# Altium footprint library con-amp-quick.PCBLIB: 30 footprints (part 1 of 2)
Each footprint in its own frame and in the unit in brackets; x right, y up, seen from the top. Pads: shape width x height; smd on the part's side, far side on the other; paste and mask are expansions set on the pad; w line width, h text height; cw(c..) or ccw(c..) is an arc to the next point about the centre after c.
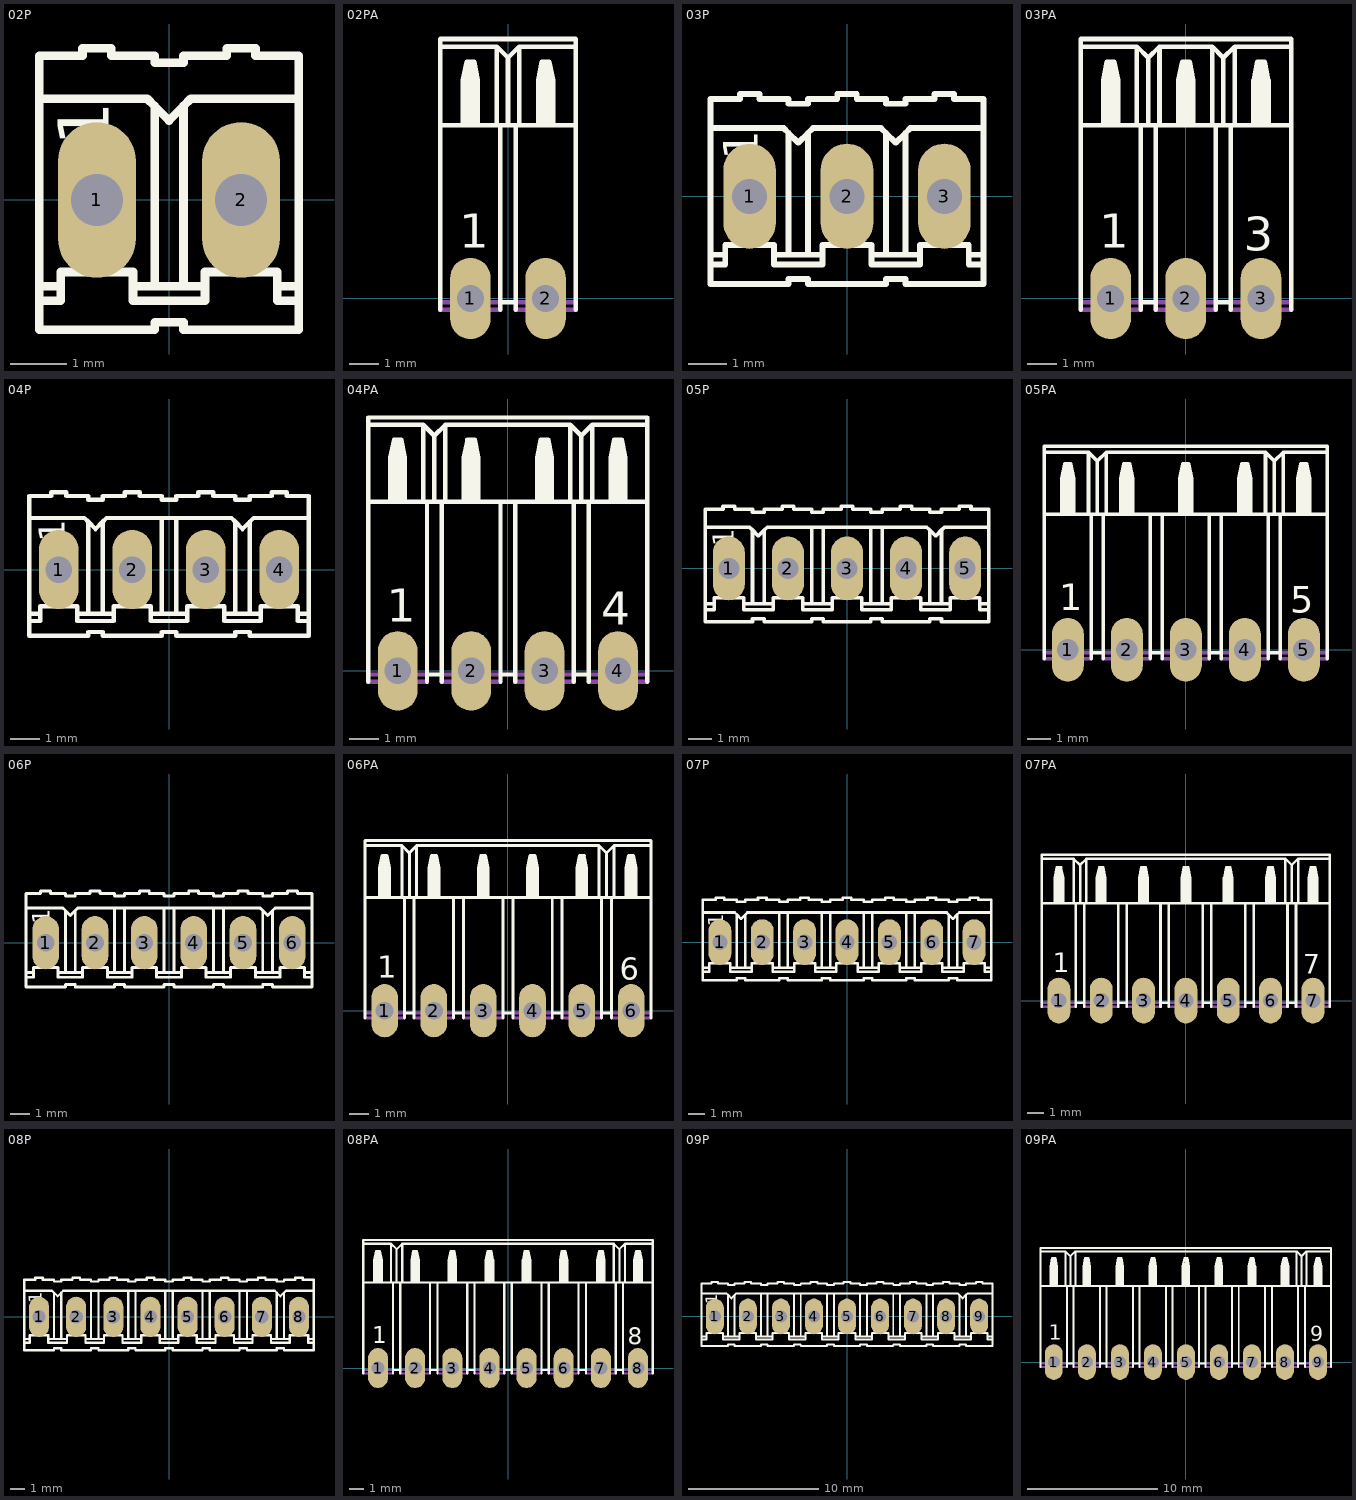
[diagram p0: the footprints below, top view; thin cyan lines are the x and y axes]

## 02P [mil]
pads (2):
  oval 54x108 hole 36: 1(-50,0) 2(50,0)
Top Overlay:
  lines w6: -90,-70 -90,-90 -10,-90 -10,-85 10,-85 10,-90 90,-90 90,-70 ; -90,-70 -75,-70 -75,-60 ; -90,-70 -90,-60 ; -90,-60 -90,70 ; -90,-60 -75,-60 ; -90,70 -90,100 -60,100 -60,105 -40,105 -40,100 -10,100 -10,95 10,95 10,100 40,100 40,105 60,105 60,100 90,100 90,70 ; -90,70 -15,70 -10,65 ; -75,-60 -75,-50 -25,-50 -25,-60 ; -25,-60 -25,-70 25,-70 25,-60 ; -25,-60 -10,-60 ; -10,-60 10,-60 ; -10,-60 -10,65 ; -10,65 0,55 10,65 ; 10,-60 25,-60 ; 10,-60 10,65 ; 10,65 15,70 90,70 ; 25,-60 25,-50 75,-50 75,-60 ; 75,-60 75,-70 90,-70 ; 75,-60 90,-60 ; 90,-70 90,-60 ; 90,-60 90,70
  text "1" at -30,37 h60.45
Mechanical 16:
  rectangle: -63,-13 -37,13
  rectangle: 37,-13 63,13

## 02PA [mil]
pads (2):
  oval 54x108 hole 36: 1(-50,0) 2(50,0)
Top Overlay:
  rectangle: 40,230 60,290
  rectangle: 45,290 55,315
  rectangle: 55,290 60,300
  rectangle: 40,290 45,300
  rectangle: -60,230 -40,290
  rectangle: -55,290 -45,315
  rectangle: -45,290 -40,300
  rectangle: -60,290 -55,300
  lines w6: -90,-15 -90,230 ; -10,-15 -10,-5 ; 10,-15 10,-5 ; 90,-15 90,230 ; -90,230 -90,335 ; -90,230 -60,230 ; -90,335 -90,345 90,345 90,335 ; -90,335 -15,335 ; -60,230 -40,230 ; -60,230 -60,290 ; -60,290 -40,290 ; -60,290 -55,315 -45,315 -40,290 ; -40,230 -15,230 ; -40,230 -40,290 ; -15,230 -15,335 ; -15,230 -10,230 ; -15,335 0,320 ; -10,-5 -10,230 ; -10,-5 10,-5 ; -10,230 0,230 ; 0,230 0,320 ; 0,230 10,230 ; 0,320 15,335 ; 10,-5 10,230 ; 10,230 15,230 ; 15,230 15,335 ; 15,230 40,230 ; 15,335 90,335 ; 40,230 60,230 ; 40,230 40,290 ; 40,290 60,290 ; 40,290 45,315 55,315 60,290 ; 60,230 90,230 ; 60,230 60,290 ; 90,230 90,335
  text "1" at -65,52 h77.5
Mechanical 16:
  lines w6: -90,-15 -70,-15 -70,-5 ; -90,-5 -70,-5 ; -10,-15 -30,-15 -30,-5 ; -10,-5 -30,-5 ; 10,-15 30,-15 30,-5 ; 10,-5 30,-5 ; 90,-15 70,-15 70,-5 ; 90,-5 70,-5 ; -70,-5 -60,-5 -60,-15 -40,-15 -40,-5 -30,-5 ; 30,-5 40,-5 40,-15 60,-15 60,-5 70,-5

## 03P [mil]
pads (3):
  oval 54x108 hole 36: 1(-100,0) 2(0,0) 3(100,0)
Top Overlay:
  lines w6: -140,-70 -140,-90 -60,-90 -60,-85 -40,-85 -40,-90 40,-90 40,-85 60,-85 60,-90 140,-90 140,-70 ; -140,-70 -125,-70 -125,-60 ; -140,-70 -140,-60 ; -140,-60 -140,70 ; -140,-60 -125,-60 ; -140,70 -140,100 -110,100 -110,105 -90,105 -90,100 -60,100 -60,95 -40,95 -40,100 -10,100 -10,105 10,105 10,100 40,100 40,95 60,95 60,100 90,100 90,105 110,105 110,100 140,100 140,70 ; -140,70 -65,70 -60,65 ; -125,-60 -125,-50 -75,-50 -75,-60 ; -75,-60 -75,-70 -25,-70 -25,-60 ; -75,-60 -60,-60 ; -60,-60 -40,-60 ; -60,-60 -60,65 ; -60,65 -50,55 -40,65 ; -40,-60 -25,-60 ; -40,-60 -40,65 ; -40,65 -35,70 35,70 40,65 ; -25,-60 -25,-50 25,-50 25,-60 ; 25,-60 25,-70 75,-70 75,-60 ; 25,-60 40,-60 ; 40,-60 60,-60 ; 40,-60 40,65 ; 40,65 50,55 60,65 ; 60,-60 75,-60 ; 60,-60 60,65 ; 60,65 65,70 140,70 ; 75,-60 75,-50 125,-50 125,-60 ; 125,-60 125,-70 140,-70 ; 125,-60 140,-60 ; 140,-70 140,-60 ; 140,-60 140,70
  text "1" at -80,37 h60.45
Mechanical 16:
  rectangle: -113,-13 -87,13
  rectangle: -13,-13 13,13
  rectangle: 87,-13 113,13

## 03PA [mil]
pads (3):
  oval 54x108 hole 36: 1(-100,0) 2(0,0) 3(100,0)
Top Overlay:
  rectangle: 90,230 110,290
  rectangle: 95,290 105,315
  rectangle: 105,290 110,300
  rectangle: 90,290 95,300
  rectangle: -10,230 10,290
  rectangle: -5,290 5,315
  rectangle: 5,290 10,300
  rectangle: -10,290 -5,300
  rectangle: -110,230 -90,290
  rectangle: -105,290 -95,315
  rectangle: -95,290 -90,300
  rectangle: -110,290 -105,300
  lines w6: -140,-15 -140,230 ; -60,-15 -60,-5 ; -40,-15 -40,-5 ; 40,-15 40,-5 ; 60,-15 60,-5 ; 90,230 90,290 ; 110,230 110,290 ; 140,-15 140,230 ; -140,230 -140,335 ; -140,230 -110,230 ; -140,335 -140,345 140,345 140,335 ; -140,335 -65,335 ; -110,230 -90,230 ; -110,230 -110,290 ; -110,290 -90,290 ; -110,290 -105,315 -95,315 -90,290 ; -90,230 -65,230 ; -90,230 -90,290 ; -65,230 -65,335 ; -65,230 -60,230 ; -65,335 -50,320 ; -60,-5 -60,230 ; -60,-5 -40,-5 ; -60,230 -50,230 ; -50,230 -50,320 ; -50,230 -40,230 ; -50,320 -35,335 ; -40,-5 -40,230 ; -40,230 -35,230 ; -35,230 -35,335 ; -35,230 -10,230 ; -35,335 35,335 ; -10,230 10,230 ; -10,230 -10,290 ; -10,290 10,290 ; -10,290 -5,315 5,315 10,290 ; 10,230 35,230 ; 10,230 10,290 ; 35,230 35,335 ; 35,230 40,230 ; 35,335 50,320 ; 40,-5 40,230 ; 40,-5 60,-5 ; 40,230 50,230 ; 50,230 50,320 ; 50,230 60,230 ; 50,320 65,335 ; 60,-5 60,230 ; 60,230 65,230 ; 65,230 65,335 ; 65,230 140,230 ; 65,335 140,335 ; 90,290 110,290 ; 90,290 95,315 105,315 110,290 ; 140,230 140,335
  text "1" at -115,52 h77.5
  text "3" at 77,48 h77.5
Mechanical 16:
  lines w6: -140,-15 -120,-15 -120,-5 ; -140,-5 -120,-5 ; -60,-15 -80,-15 -80,-5 ; -60,-5 -80,-5 ; -40,-15 -20,-15 -20,-5 ; -40,-5 -20,-5 ; 40,-15 20,-15 20,-5 ; 40,-5 20,-5 ; 60,-15 80,-15 80,-5 ; 60,-5 80,-5 ; 140,-15 120,-15 120,-5 ; 140,-5 120,-5 ; -120,-5 -110,-5 -110,-15 -90,-15 -90,-5 -80,-5 ; -20,-5 -10,-5 -10,-15 10,-15 10,-5 20,-5 ; 80,-5 90,-5 90,-15 110,-15 110,-5 120,-5

## 04P [mil]
pads (4):
  oval 54x108 hole 36: 1(-150,0) 2(-50,0) 3(50,0) 4(150,0)
Top Overlay:
  lines w6: 110,65 110,-60 ; -190,-70 -190,-90 -110,-90 -110,-85 -90,-85 -90,-90 -10,-90 -10,-85 10,-85 10,-90 90,-90 90,-85 110,-85 110,-90 190,-90 190,-70 ; -190,-70 -175,-70 -175,-60 ; -190,-70 -190,-60 ; -190,-60 -190,70 ; -190,-60 -175,-60 ; -190,70 -190,100 -160,100 -160,105 -140,105 -140,100 -110,100 -110,95 -90,95 -90,100 -60,100 -60,105 -40,105 -40,100 -10,100 -10,95 10,95 10,100 40,100 40,105 60,105 60,100 90,100 90,95 110,95 110,100 140,100 140,105 160,105 160,100 190,100 190,70 ; -190,70 -115,70 -110,65 ; -175,-60 -175,-50 -125,-50 -125,-60 ; -125,-60 -125,-70 -75,-70 -75,-60 ; -125,-60 -110,-60 ; -110,-60 -90,-60 ; -110,-60 -110,65 ; -110,65 -100,55 -90,65 ; -90,-60 -75,-60 ; -90,-60 -90,65 ; -90,65 -85,70 -10,70 ; -75,-60 -75,-50 -25,-50 -25,-60 ; -25,-60 -25,-70 25,-70 25,-60 ; -25,-60 -10,-60 ; -10,-60 10,-60 ; -10,-60 -10,70 ; -10,70 10,70 ; 10,-60 25,-60 ; 10,-60 10,70 ; 10,70 85,70 90,65 ; 25,-60 25,-50 75,-50 75,-60 ; 75,-60 75,-70 125,-70 125,-60 ; 75,-60 90,-60 ; 90,-60 110,-60 ; 90,-60 90,65 ; 90,65 100,55 115,70 190,70 ; 110,-60 125,-60 ; 125,-60 125,-50 175,-50 175,-60 ; 175,-60 175,-70 190,-70 ; 175,-60 190,-60 ; 190,-70 190,-60 ; 190,-60 190,70
  text "1" at -130,37 h60.45
Mechanical 16:
  rectangle: -163,-13 -137,13
  rectangle: -63,-13 -37,13
  rectangle: 37,-13 63,13
  rectangle: 137,-13 163,13

## 04PA [mil]
pads (4):
  oval 54x108 hole 36: 1(-150,0) 2(-50,0) 3(50,0) 4(150,0)
Top Overlay:
  rectangle: 140,230 160,290
  rectangle: 145,290 155,315
  rectangle: 155,290 160,300
  rectangle: 140,290 145,300
  rectangle: 40,230 60,290
  rectangle: 45,290 55,315
  rectangle: 55,290 60,300
  rectangle: 40,290 45,300
  rectangle: -60,230 -40,290
  rectangle: -55,290 -45,315
  rectangle: -45,290 -40,300
  rectangle: -60,290 -55,300
  rectangle: -160,230 -140,290
  rectangle: -155,290 -145,315
  rectangle: -145,290 -140,300
  rectangle: -160,290 -155,300
  lines w6: -190,-15 -190,230 ; -110,-15 -110,-5 ; -90,-15 -90,-5 ; -10,-15 -10,-5 ; 10,-15 10,-5 ; 40,230 40,290 ; 60,230 60,290 ; 90,-15 90,-5 ; 110,-15 110,-5 ; 140,230 140,290 ; 160,230 160,290 ; 190,-15 190,230 ; -190,230 -190,335 ; -190,230 -160,230 ; -190,335 -190,345 190,345 190,335 ; -190,335 -115,335 ; -160,230 -140,230 ; -160,230 -160,290 ; -160,290 -140,290 ; -160,290 -155,315 -145,315 -140,290 ; -140,230 -115,230 ; -140,230 -140,290 ; -115,230 -115,335 ; -115,230 -110,230 ; -115,335 -100,320 ; -110,-5 -110,230 ; -110,-5 -90,-5 ; -110,230 -100,230 ; -100,230 -100,320 ; -100,230 -90,230 ; -100,320 -85,335 ; -90,-5 -90,230 ; -90,230 -85,230 ; -85,230 -85,335 ; -85,230 -60,230 ; -85,335 85,335 ; -60,230 -40,230 ; -60,230 -60,290 ; -60,290 -40,290 ; -60,290 -55,315 -45,315 -40,290 ; -40,230 -10,230 ; -40,230 -40,290 ; -10,-5 -10,230 ; -10,-5 10,-5 ; -10,230 10,230 ; 10,-5 10,230 ; 10,230 85,230 ; 40,290 60,290 ; 40,290 45,315 55,315 60,290 ; 85,230 85,335 ; 85,230 90,230 ; 85,335 100,320 ; 90,-5 90,230 ; 90,-5 110,-5 ; 90,230 100,230 ; 100,230 100,320 ; 100,230 110,230 ; 100,320 115,335 ; 110,-5 110,230 ; 110,230 115,230 ; 115,230 115,335 ; 115,230 190,230 ; 115,335 190,335 ; 140,290 160,290 ; 140,290 145,315 155,315 160,290 ; 190,230 190,335
  text "1" at -165,52 h77.5
  text "4" at 127,48 h77.5
Mechanical 16:
  lines w6: -190,-15 -170,-15 -170,-5 ; -190,-5 -170,-5 ; -110,-15 -130,-15 -130,-5 ; -110,-5 -130,-5 ; -90,-15 -70,-15 -70,-5 ; -90,-5 -70,-5 ; -10,-15 -30,-15 -30,-5 ; -10,-5 -30,-5 ; 10,-15 30,-15 30,-5 ; 10,-5 30,-5 ; 90,-15 70,-15 70,-5 ; 90,-5 70,-5 ; 110,-15 130,-15 130,-5 ; 110,-5 130,-5 ; 190,-15 170,-15 170,-5 ; 190,-5 170,-5 ; -170,-5 -160,-5 -160,-15 -140,-15 -140,-5 -130,-5 ; -70,-5 -60,-5 -60,-15 -40,-15 -40,-5 -30,-5 ; 30,-5 40,-5 40,-15 60,-15 60,-5 70,-5 ; 130,-5 140,-5 140,-15 160,-15 160,-5 170,-5

## 05P [mil]
pads (5):
  oval 54x108 hole 36: 1(-200,0) 2(-100,0) 3(0,0) 4(100,0) 5(200,0)
Top Overlay:
  lines w6: -240,-70 -240,-90 -160,-90 -160,-85 -140,-85 -140,-90 -60,-90 -60,-85 -40,-85 -40,-90 40,-90 40,-85 60,-85 60,-90 140,-90 140,-85 160,-85 160,-90 240,-90 240,-70 ; -240,-70 -225,-70 -225,-60 ; -240,-70 -240,-60 ; -240,-60 -240,70 ; -240,-60 -225,-60 ; -240,70 -240,100 -210,100 -210,105 -190,105 -190,100 -160,100 -160,95 -140,95 -140,100 -110,100 -110,105 -90,105 -90,100 -60,100 -60,95 -40,95 -40,100 -10,100 -10,105 10,105 10,100 40,100 40,95 60,95 60,100 90,100 90,105 110,105 110,100 140,100 140,95 160,95 160,100 190,100 190,105 210,105 210,100 240,100 240,70 ; -240,70 -165,70 -160,65 ; -225,-60 -225,-50 -175,-50 -175,-60 ; -175,-60 -175,-70 -125,-70 -125,-60 ; -175,-60 -160,-60 ; -160,-60 -140,-60 ; -160,-60 -160,65 ; -160,65 -150,55 -140,65 ; -140,-60 -125,-60 ; -140,-60 -140,65 ; -140,65 -135,70 -60,70 ; -125,-60 -125,-50 -75,-50 -75,-60 ; -75,-60 -75,-70 -25,-70 -25,-60 ; -75,-60 -60,-60 ; -60,-60 -40,-60 ; -60,-60 -60,70 ; -60,70 -40,70 ; -40,-60 -25,-60 ; -40,-60 -40,70 ; -40,70 40,70 ; -25,-60 -25,-50 25,-50 25,-60 ; 25,-60 25,-70 75,-70 75,-60 ; 25,-60 40,-60 ; 40,-60 40,70 ; 40,-60 60,-60 ; 40,70 60,70 ; 60,-60 60,70 ; 60,-60 75,-60 ; 60,70 135,70 140,65 ; 75,-60 75,-50 125,-50 125,-60 ; 125,-60 125,-70 175,-70 175,-60 ; 125,-60 140,-60 ; 140,-60 160,-60 ; 140,-60 140,65 ; 140,65 150,55 160,65 ; 160,-60 175,-60 ; 160,-60 160,65 ; 160,65 165,70 240,70 ; 175,-60 175,-50 225,-50 225,-60 ; 225,-60 225,-70 240,-70 ; 225,-60 240,-60 ; 240,-70 240,-60 ; 240,-60 240,70
  text "1" at -180,37 h60.45
Mechanical 16:
  rectangle: -213,-13 -187,13
  rectangle: -113,-13 -87,13
  rectangle: -13,-13 13,13
  rectangle: 87,-13 113,13
  rectangle: 187,-13 213,13

## 05PA [mil]
pads (5):
  oval 54x108 hole 36: 1(-200,0) 2(-100,0) 3(0,0) 4(100,0) 5(200,0)
Top Overlay:
  rectangle: 190,230 210,290
  rectangle: 195,290 205,315
  rectangle: 205,290 210,300
  rectangle: 190,290 195,300
  rectangle: 90,230 110,290
  rectangle: 95,290 105,315
  rectangle: 105,290 110,300
  rectangle: 90,290 95,300
  rectangle: -10,230 10,290
  rectangle: -5,290 5,315
  rectangle: 5,290 10,300
  rectangle: -10,290 -5,300
  rectangle: -110,230 -90,290
  rectangle: -105,290 -95,315
  rectangle: -95,290 -90,300
  rectangle: -110,290 -105,300
  rectangle: -210,230 -190,290
  rectangle: -205,290 -195,315
  rectangle: -195,290 -190,300
  rectangle: -210,290 -205,300
  lines w6: -240,-15 -240,230 ; -160,-15 -160,-5 ; -140,-15 -140,-5 ; -60,-15 -60,-5 ; -40,-15 -40,-5 ; -10,230 -10,290 ; 10,230 10,290 ; 40,-15 40,-5 ; 60,-15 60,-5 ; 90,230 90,290 ; 110,230 110,290 ; 140,-15 140,-5 ; 160,-15 160,-5 ; 165,230 165,335 ; 240,-15 240,230 ; -240,230 -240,335 ; -240,230 -210,230 ; -240,335 -240,345 240,345 240,335 ; -240,335 -165,335 ; -210,230 -190,230 ; -210,230 -210,290 ; -210,290 -190,290 ; -210,290 -205,315 -195,315 -190,290 ; -190,230 -165,230 ; -190,230 -190,290 ; -165,230 -165,335 ; -165,230 -160,230 ; -165,335 -150,320 ; -160,-5 -160,230 ; -160,-5 -140,-5 ; -160,230 -150,230 ; -150,230 -150,320 ; -150,230 -140,230 ; -150,320 -135,335 ; -140,-5 -140,230 ; -140,230 -135,230 ; -135,230 -135,335 ; -135,230 -110,230 ; -135,335 135,335 ; -110,230 -90,230 ; -110,230 -110,290 ; -110,290 -90,290 ; -110,290 -105,315 -95,315 -90,290 ; -90,230 -60,230 ; -90,230 -90,290 ; -60,-5 -60,230 ; -60,-5 -40,-5 ; -60,230 -40,230 ; -40,-5 -40,230 ; -40,230 40,230 ; -10,290 10,290 ; -10,290 -5,315 5,315 10,290 ; 40,-5 40,230 ; 40,-5 60,-5 ; 40,230 60,230 ; 60,-5 60,230 ; 60,230 135,230 ; 90,290 110,290 ; 90,290 95,315 105,315 110,290 ; 135,230 135,335 ; 135,230 140,230 ; 135,335 150,320 ; 140,-5 140,230 ; 140,-5 160,-5 ; 140,230 150,230 ; 150,230 150,320 ; 150,230 160,230 ; 150,320 165,335 ; 160,-5 160,230 ; 160,230 190,230 ; 165,335 240,335 ; 190,230 190,290 ; 190,230 210,230 ; 190,290 210,290 ; 190,290 195,315 205,315 210,290 ; 210,230 210,290 ; 210,230 240,230 ; 240,230 240,335
  text "1" at -215,52 h77.5
  text "5" at 177,48 h77.5
Mechanical 16:
  lines w6: -240,-15 -220,-15 -220,-5 ; -240,-5 -220,-5 ; -160,-15 -180,-15 -180,-5 ; -160,-5 -180,-5 ; -140,-15 -120,-15 -120,-5 ; -140,-5 -120,-5 ; -60,-15 -80,-15 -80,-5 ; -60,-5 -80,-5 ; -40,-15 -20,-15 -20,-5 ; -40,-5 -20,-5 ; 40,-15 20,-15 20,-5 ; 40,-5 20,-5 ; 60,-15 80,-15 80,-5 ; 60,-5 80,-5 ; 140,-15 120,-15 120,-5 ; 140,-5 120,-5 ; 160,-15 180,-15 180,-5 ; 160,-5 180,-5 ; 240,-15 220,-15 220,-5 ; 240,-5 220,-5 ; -220,-5 -210,-5 -210,-15 -190,-15 -190,-5 -180,-5 ; -120,-5 -110,-5 -110,-15 -90,-15 -90,-5 -80,-5 ; -20,-5 -10,-5 -10,-15 10,-15 10,-5 20,-5 ; 80,-5 90,-5 90,-15 110,-15 110,-5 120,-5 ; 180,-5 190,-5 190,-15 210,-15 210,-5 220,-5

## 06P [mil]
pads (6):
  oval 54x108 hole 36: 1(-250,0) 2(-150,0) 3(-50,0) 4(50,0) 5(150,0) 6(250,0)
Top Overlay:
  drawing of 155 lines, arcs and shapes, not listed
  text "1" at -230,37 h60.45
Mechanical 16:
  rectangle: -263,-13 -237,13
  rectangle: -163,-13 -137,13
  rectangle: -63,-13 -37,13
  rectangle: 37,-13 63,13
  rectangle: 137,-13 163,13
  rectangle: 237,-13 263,13

## 06PA [mil]
pads (6):
  oval 54x108 hole 36: 1(-250,0) 2(-150,0) 3(-50,0) 4(50,0) 5(150,0) 6(250,0)
Top Overlay:
  rectangle: 140,230 160,290
  rectangle: 145,290 155,315
  rectangle: 155,290 160,300
  rectangle: 140,290 145,300
  rectangle: 40,230 60,290
  rectangle: 45,290 55,315
  rectangle: 55,290 60,300
  rectangle: 40,290 45,300
  rectangle: 240,230 260,290
  rectangle: 245,290 255,315
  rectangle: 255,290 260,300
  rectangle: 240,290 245,300
  rectangle: -60,230 -40,290
  rectangle: -55,290 -45,315
  rectangle: -45,290 -40,300
  rectangle: -60,290 -55,300
  rectangle: -160,230 -140,290
  rectangle: -155,290 -145,315
  rectangle: -145,290 -140,300
  rectangle: -160,290 -155,300
  rectangle: -260,230 -240,290
  rectangle: -255,290 -245,315
  rectangle: -245,290 -240,300
  rectangle: -260,290 -255,300
  lines w6: -290,-15 -290,230 ; -210,-15 -210,-5 ; -190,-15 -190,-5 ; -110,-15 -110,-5 ; -90,-15 -90,-5 ; -10,-15 -10,-5 ; 10,-15 10,-5 ; 90,-15 90,-5 ; 110,-15 110,-5 ; 185,230 185,335 ; 190,-15 190,-5 ; 210,-15 210,-5 ; 215,230 215,335 ; 240,230 240,290 ; 260,230 260,290 ; 290,-15 290,230 ; -290,230 -290,335 ; -290,230 -260,230 ; -290,335 -290,345 290,345 290,335 ; -290,335 -215,335 ; -260,230 -240,230 ; -260,230 -260,290 ; -260,290 -240,290 ; -260,290 -255,315 -245,315 -240,290 ; -240,230 -215,230 ; -240,230 -240,290 ; -215,230 -215,335 ; -215,230 -210,230 ; -215,335 -200,320 ; -210,-5 -210,230 ; -210,-5 -190,-5 ; -210,230 -200,230 ; -200,230 -200,320 ; -200,230 -190,230 ; -200,320 -185,335 ; -190,-5 -190,230 ; -190,230 -185,230 ; -185,230 -185,335 ; -185,230 -160,230 ; -185,335 185,335 ; -160,230 -140,230 ; -160,230 -160,290 ; -160,290 -140,290 ; -160,290 -155,315 -145,315 -140,290 ; -140,230 -110,230 ; -140,230 -140,290 ; -110,-5 -110,230 ; -110,-5 -90,-5 ; -110,230 -90,230 ; -90,-5 -90,230 ; -90,230 -60,230 ; -60,230 -40,230 ; -60,230 -60,290 ; -60,290 -40,290 ; -60,290 -55,315 -45,315 -40,290 ; -40,230 -10,230 ; -40,230 -40,290 ; -10,-5 -10,230 ; -10,-5 10,-5 ; -10,230 10,230 ; 10,-5 10,230 ; 10,230 40,230 ; 40,230 60,230 ; 40,230 40,290 ; 40,290 60,290 ; 40,290 45,315 55,315 60,290 ; 60,230 90,230 ; 60,230 60,290 ; 90,-5 90,230 ; 90,-5 110,-5 ; 90,230 110,230 ; 110,-5 110,230 ; 110,230 140,230 ; 140,230 140,290 ; 140,230 160,230 ; 140,290 160,290 ; 140,290 145,315 155,315 160,290 ; 160,230 160,290 ; 160,230 190,230 ; 185,335 200,320 ; 190,-5 190,230 ; 190,-5 210,-5 ; 190,230 200,230 ; 200,230 200,320 ; 200,230 210,230 ; 200,320 215,335 ; 210,-5 210,230 ; 210,230 290,230 ; 215,335 290,335 ; 240,290 260,290 ; 240,290 245,315 255,315 260,290 ; 290,230 290,335
  text "1" at -265,52 h77.5
  text "6" at 227,48 h77.5
Mechanical 16:
  lines w6: -290,-15 -270,-15 -270,-5 ; -290,-5 -270,-5 ; -210,-15 -230,-15 -230,-5 ; -210,-5 -230,-5 ; -190,-15 -170,-15 -170,-5 ; -190,-5 -170,-5 ; -110,-15 -130,-15 -130,-5 ; -110,-5 -130,-5 ; -90,-15 -70,-15 -70,-5 ; -90,-5 -70,-5 ; -10,-15 -30,-15 -30,-5 ; -10,-5 -30,-5 ; 10,-15 30,-15 30,-5 ; 10,-5 30,-5 ; 90,-15 70,-15 70,-5 ; 90,-5 70,-5 ; 110,-15 130,-15 130,-5 ; 110,-5 130,-5 ; 190,-15 170,-15 170,-5 ; 190,-5 170,-5 ; 210,-15 230,-15 230,-5 ; 210,-5 230,-5 ; 290,-15 270,-15 270,-5 ; 290,-5 270,-5 ; -270,-5 -260,-5 -260,-15 -240,-15 -240,-5 -230,-5 ; -170,-5 -160,-5 -160,-15 -140,-15 -140,-5 -130,-5 ; -70,-5 -60,-5 -60,-15 -40,-15 -40,-5 -30,-5 ; 30,-5 40,-5 40,-15 60,-15 60,-5 70,-5 ; 130,-5 140,-5 140,-15 160,-15 160,-5 170,-5 ; 230,-5 240,-5 240,-15 260,-15 260,-5 270,-5

## 07P [mil]
pads (7):
  oval 54x108 hole 36: 1(-300,0) 2(-200,0) 3(-100,0) 4(0,0) 5(100,0) 6(200,0) 7(300,0)
Top Overlay:
  drawing of 180 lines, arcs and shapes, not listed
  text "1" at -280,37 h60.45
Mechanical 16:
  rectangle: -313,-13 -287,13
  rectangle: -213,-13 -187,13
  rectangle: -113,-13 -87,13
  rectangle: -13,-13 13,13
  rectangle: 87,-13 113,13
  rectangle: 287,-13 313,13
  rectangle: 187,-13 213,13

## 07PA [mil]
pads (7):
  oval 54x108 hole 36: 1(-300,0) 2(-200,0) 3(-100,0) 4(0,0) 5(100,0) 6(200,0) 7(300,0)
Top Overlay:
  rectangle: 90,230 110,290
  rectangle: 95,290 105,315
  rectangle: 105,290 110,300
  rectangle: 90,290 95,300
  rectangle: -10,230 10,290
  rectangle: -5,290 5,315
  rectangle: 5,290 10,300
  rectangle: -10,290 -5,300
  rectangle: 190,230 210,290
  rectangle: 195,290 205,315
  rectangle: 205,290 210,300
  rectangle: 190,290 195,300
  rectangle: 290,230 310,290
  rectangle: 295,290 305,315
  rectangle: 305,290 310,300
  rectangle: 290,290 295,300
  rectangle: -110,230 -90,290
  rectangle: -105,290 -95,315
  rectangle: -95,290 -90,300
  rectangle: -110,290 -105,300
  rectangle: -210,230 -190,290
  rectangle: -205,290 -195,315
  rectangle: -195,290 -190,300
  rectangle: -210,290 -205,300
  rectangle: -310,230 -290,290
  rectangle: -305,290 -295,315
  rectangle: -295,290 -290,300
  rectangle: -310,290 -305,300
  lines w6: -340,-15 -340,230 ; -260,-15 -260,-5 ; -240,-15 -240,-5 ; -160,-15 -160,-5 ; -140,-15 -140,-5 ; -60,-15 -60,-5 ; -40,-15 -40,-5 ; 40,-15 40,-5 ; 60,-15 60,-5 ; 140,-15 140,-5 ; 160,-15 160,-5 ; 190,230 190,290 ; 210,230 210,290 ; 240,-15 240,-5 ; 260,-15 260,-5 ; 290,230 290,290 ; 310,230 310,290 ; 340,-15 340,230 ; -340,230 -340,335 ; -340,230 -310,230 ; -340,335 -340,345 340,345 340,335 ; -340,335 -265,335 ; -310,230 -290,230 ; -310,230 -310,290 ; -310,290 -290,290 ; -310,290 -305,315 -295,315 -290,290 ; -290,230 -265,230 ; -290,230 -290,290 ; -265,230 -265,335 ; -265,230 -260,230 ; -265,335 -250,320 ; -260,-5 -260,230 ; -260,-5 -240,-5 ; -260,230 -250,230 ; -250,230 -250,320 ; -250,230 -240,230 ; -250,320 -235,335 ; -240,-5 -240,230 ; -240,230 -235,230 ; -235,230 -235,335 ; -235,230 -210,230 ; -235,335 235,335 ; -210,230 -190,230 ; -210,230 -210,290 ; -210,290 -190,290 ; -210,290 -205,315 -195,315 -190,290 ; -190,230 -160,230 ; -190,230 -190,290 ; -160,-5 -160,230 ; -160,-5 -140,-5 ; -160,230 -140,230 ; -140,-5 -140,230 ; -140,230 -110,230 ; -110,230 -90,230 ; -110,230 -110,290 ; -110,290 -90,290 ; -110,290 -105,315 -95,315 -90,290 ; -90,230 -60,230 ; -90,230 -90,290 ; -60,-5 -60,230 ; -60,-5 -40,-5 ; -60,230 -40,230 ; -40,-5 -40,230 ; -40,230 -10,230 ; -10,230 10,230 ; -10,230 -10,290 ; -10,290 10,290 ; -10,290 -5,315 5,315 10,290 ; 10,230 40,230 ; 10,230 10,290 ; 40,-5 40,230 ; 40,-5 60,-5 ; 40,230 60,230 ; 60,-5 60,230 ; 60,230 90,230 ; 90,230 90,290 ; 90,230 110,230 ; 90,290 110,290 ; 90,290 95,315 105,315 110,290 ; 110,230 110,290 ; 110,230 140,230 ; 140,-5 140,230 ; 140,-5 160,-5 ; 140,230 160,230 ; 160,-5 160,230 ; 160,230 235,230 ; 190,290 210,290 ; 190,290 195,315 205,315 210,290 ; 235,230 235,335 ; 235,230 240,230 ; 235,335 250,320 ; 240,-5 240,230 ; 240,-5 260,-5 ; 240,230 250,230 ; 250,230 250,320 ; 250,230 260,230 ; 250,320 265,335 ; 260,-5 260,230 ; 260,230 265,230 ; 265,230 265,335 ; 265,230 340,230 ; 265,335 340,335 ; 290,290 310,290 ; 290,290 295,315 305,315 310,290 ; 340,230 340,335
  text "1" at -315,52 h77.5
  text "7" at 277,48 h77.5
Mechanical 16:
  lines w6: -340,-15 -320,-15 -320,-5 ; -340,-5 -320,-5 ; -260,-15 -280,-15 -280,-5 ; -260,-5 -280,-5 ; -240,-15 -220,-15 -220,-5 ; -240,-5 -220,-5 ; -160,-15 -180,-15 -180,-5 ; -160,-5 -180,-5 ; -140,-15 -120,-15 -120,-5 ; -140,-5 -120,-5 ; -60,-15 -80,-15 -80,-5 ; -60,-5 -80,-5 ; -40,-15 -20,-15 -20,-5 ; -40,-5 -20,-5 ; 40,-15 20,-15 20,-5 ; 40,-5 20,-5 ; 60,-15 80,-15 80,-5 ; 60,-5 80,-5 ; 140,-15 120,-15 120,-5 ; 140,-5 120,-5 ; 160,-15 180,-15 180,-5 ; 160,-5 180,-5 ; 240,-15 220,-15 220,-5 ; 240,-5 220,-5 ; 260,-15 280,-15 280,-5 ; 260,-5 280,-5 ; 340,-15 320,-15 320,-5 ; 340,-5 320,-5 ; -320,-5 -310,-5 -310,-15 -290,-15 -290,-5 -280,-5 ; -220,-5 -210,-5 -210,-15 -190,-15 -190,-5 -180,-5 ; -120,-5 -110,-5 -110,-15 -90,-15 -90,-5 -80,-5 ; -20,-5 -10,-5 -10,-15 10,-15 10,-5 20,-5 ; 80,-5 90,-5 90,-15 110,-15 110,-5 120,-5 ; 180,-5 190,-5 190,-15 210,-15 210,-5 220,-5 ; 280,-5 290,-5 290,-15 310,-15 310,-5 320,-5

## 08P [mil]
pads (8):
  oval 54x108 hole 36: 1(-350,0) 2(-250,0) 3(-150,0) 4(-50,0) 5(50,0) 6(150,0) 7(250,0) 8(350,0)
Top Overlay:
  drawing of 205 lines, arcs and shapes, not listed
  text "1" at -330,37 h60.45
Mechanical 16:
  rectangle: -363,-13 -337,13
  rectangle: -263,-13 -237,13
  rectangle: -163,-13 -137,13
  rectangle: -63,-13 -37,13
  rectangle: 37,-13 63,13
  rectangle: 237,-13 263,13
  rectangle: 137,-13 163,13
  rectangle: 337,-13 363,13

## 08PA [mil]
pads (8):
  oval 54x108 hole 36: 1(-350,0) 2(-250,0) 3(-150,0) 4(-50,0) 5(50,0) 6(150,0) 7(250,0) 8(350,0)
Top Overlay:
  drawing of 172 lines, arcs and shapes, not listed
  text "1" at -365,52 h77.5
  text "8" at 322,48 h77.5
Mechanical 16:
  lines w6: -390,-15 -370,-15 -370,-5 ; -390,-5 -370,-5 ; -310,-15 -330,-15 -330,-5 ; -310,-5 -330,-5 ; -290,-15 -270,-15 -270,-5 ; -290,-5 -270,-5 ; -210,-15 -230,-15 -230,-5 ; -210,-5 -230,-5 ; -190,-15 -170,-15 -170,-5 ; -190,-5 -170,-5 ; -110,-15 -130,-15 -130,-5 ; -110,-5 -130,-5 ; -90,-15 -70,-15 -70,-5 ; -90,-5 -70,-5 ; -10,-15 -30,-15 -30,-5 ; -10,-5 -30,-5 ; 10,-15 30,-15 30,-5 ; 10,-5 30,-5 ; 90,-15 70,-15 70,-5 ; 90,-5 70,-5 ; 110,-15 130,-15 130,-5 ; 110,-5 130,-5 ; 190,-15 170,-15 170,-5 ; 190,-5 170,-5 ; 210,-15 230,-15 230,-5 ; 210,-5 230,-5 ; 290,-15 270,-15 270,-5 ; 290,-5 270,-5 ; 310,-15 330,-15 330,-5 ; 310,-5 330,-5 ; 390,-15 370,-15 370,-5 ; 390,-5 370,-5 ; -370,-5 -360,-5 -360,-15 -340,-15 -340,-5 -330,-5 ; -270,-5 -260,-5 -260,-15 -240,-15 -240,-5 -230,-5 ; -170,-5 -160,-5 -160,-15 -140,-15 -140,-5 -130,-5 ; -70,-5 -60,-5 -60,-15 -40,-15 -40,-5 -30,-5 ; 30,-5 40,-5 40,-15 60,-15 60,-5 70,-5 ; 130,-5 140,-5 140,-15 160,-15 160,-5 170,-5 ; 230,-5 240,-5 240,-15 260,-15 260,-5 270,-5 ; 330,-5 340,-5 340,-15 360,-15 360,-5 370,-5

## 09P [mil]
pads (9):
  oval 54x108 hole 36: 1(-400,0) 2(-300,0) 3(-200,0) 4(-100,0) 5(0,0) 6(100,0) 7(200,0) 8(300,0) 9(400,0)
Top Overlay:
  drawing of 230 lines, arcs and shapes, not listed
  text "1" at -380,37 h60.45
Mechanical 16:
  rectangle: -413,-13 -387,13
  rectangle: -313,-13 -287,13
  rectangle: -213,-13 -187,13
  rectangle: -113,-13 -87,13
  rectangle: -13,-13 13,13
  rectangle: 187,-13 213,13
  rectangle: 87,-13 113,13
  rectangle: 387,-13 413,13
  rectangle: 287,-13 313,13

## 09PA [mil]
pads (9):
  oval 54x108 hole 36: 1(-400,0) 2(-300,0) 3(-200,0) 4(-100,0) 5(0,0) 6(100,0) 7(200,0) 8(300,0) 9(400,0)
Top Overlay:
  drawing of 188 lines, arcs and shapes, not listed
  text "1" at -415,52 h77.5
  text "9" at 377,48 h77.5
Mechanical 16:
  lines w6: -440,-15 -420,-15 -420,-5 ; -440,-5 -420,-5 ; -360,-15 -380,-15 -380,-5 ; -360,-5 -380,-5 ; -340,-15 -320,-15 -320,-5 ; -340,-5 -320,-5 ; -260,-15 -280,-15 -280,-5 ; -260,-5 -280,-5 ; -240,-15 -220,-15 -220,-5 ; -240,-5 -220,-5 ; -160,-15 -180,-15 -180,-5 ; -160,-5 -180,-5 ; -140,-15 -120,-15 -120,-5 ; -140,-5 -120,-5 ; -60,-15 -80,-15 -80,-5 ; -60,-5 -80,-5 ; -40,-15 -20,-15 -20,-5 ; -40,-5 -20,-5 ; 40,-15 20,-15 20,-5 ; 40,-5 20,-5 ; 60,-15 80,-15 80,-5 ; 60,-5 80,-5 ; 140,-15 120,-15 120,-5 ; 140,-5 120,-5 ; 160,-15 180,-15 180,-5 ; 160,-5 180,-5 ; 240,-15 220,-15 220,-5 ; 240,-5 220,-5 ; 260,-15 280,-15 280,-5 ; 260,-5 280,-5 ; 340,-15 320,-15 320,-5 ; 340,-5 320,-5 ; 360,-15 380,-15 380,-5 ; 360,-5 380,-5 ; 440,-15 420,-15 420,-5 ; 440,-5 420,-5 ; -420,-5 -410,-5 -410,-15 -390,-15 -390,-5 -380,-5 ; -320,-5 -310,-5 -310,-15 -290,-15 -290,-5 -280,-5 ; -220,-5 -210,-5 -210,-15 -190,-15 -190,-5 -180,-5 ; -120,-5 -110,-5 -110,-15 -90,-15 -90,-5 -80,-5 ; -20,-5 -10,-5 -10,-15 10,-15 10,-5 20,-5 ; 80,-5 90,-5 90,-15 110,-15 110,-5 120,-5 ; 180,-5 190,-5 190,-15 210,-15 210,-5 220,-5 ; 280,-5 290,-5 290,-15 310,-15 310,-5 320,-5 ; 380,-5 390,-5 390,-15 410,-15 410,-5 420,-5